# Altium footprint library PCB - CONNECTORS STACK - Samtec - 2x52-pin.PcbLib: 4 footprints
Each footprint in its own frame and in the unit in brackets; x right, y up, seen from the top. Pads: shape width x height; smd on the part's side, far side on the other; paste and mask are expansions set on the pad; w line width, h text height; cw(c..) or ccw(c..) is an arc to the next point about the centre after c.
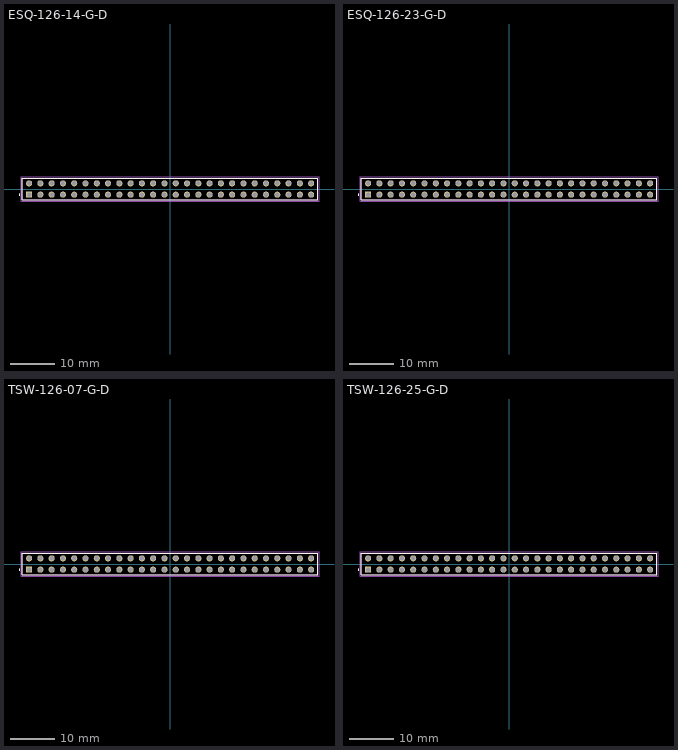
[diagram p0: the footprints below, top view; thin cyan lines are the x and y axes]

## ESQ-126-14-G-D [mm]
pads (52):
  rect 1.37x1.37 hole 1.02: 01(-31.75,-1.27)
  round 1.37 hole 1.02: 02(-31.75,1.27) 03(-29.21,-1.27) 04(-29.21,1.27) 05(-26.67,-1.27) 06(-26.67,1.27) 07(-24.13,-1.27) 08(-24.13,1.27) 09(-21.59,-1.27) 10(-21.59,1.27) 11(-19.05,-1.27) 12(-19.05,1.27) 13(-16.51,-1.27) 14(-16.51,1.27) 15(-13.97,-1.27) 16(-13.97,1.27) 17(-11.43,-1.27) 18(-11.43,1.27) 19(-8.89,-1.27) 20(-8.89,1.27) 21(-6.35,-1.27) 22(-6.35,1.27) 23(-3.81,-1.27) 24(-3.81,1.27) 25(-1.27,-1.27) 26(-1.27,1.27) 27(1.27,-1.27) 28(1.27,1.27) 29(3.81,-1.27) 30(3.81,1.27) 31(6.35,-1.27) 32(6.35,1.27) 33(8.89,-1.27) 34(8.89,1.27) 35(11.43,-1.27) 36(11.43,1.27) 37(13.97,-1.27) 38(13.97,1.27) 39(16.51,-1.27) 40(16.51,1.27) 41(19.05,-1.27) 42(19.05,1.27) 43(21.59,-1.27) 44(21.59,1.27) 45(24.13,-1.27) 46(24.13,1.27) 47(26.67,-1.27) 48(26.67,1.27) 49(29.21,-1.27) 50(29.21,1.27) 51(31.75,-1.27) 52(31.75,1.27)
Top Overlay:
  circle w0.2: c-33.925,-1.27 r0.1
  lines w0.2: -33.275,-2.475 -33.275,2.475 33.275,2.475 33.275,-2.475 -33.275,-2.475
Mechanical 13:
  circle w0.2: c-33.925,-1.27 r0.1
  lines w0.1: -33.275,-2.475 -33.275,2.475 ; -33.275,-2.475 33.275,-2.475 ; -33.275,-2.475 -33.275,2.475 ; -33.275,2.475 33.275,2.475 ; -33.275,2.475 33.275,2.475 ; 33.275,-2.475 33.275,2.475 ; 33.275,-2.475 33.275,2.475
Mechanical 15:
  lines w0.05: -33.525,-2.725 -33.525,2.725 33.525,2.725 33.525,-2.725 -33.525,-2.725
3D body "ESQ-126-14-G-D.stp": height 11.1, standoff -12.14, extent -33.147,-2.54 33.401,2.54

## ESQ-126-23-G-D [mm]
pads (52):
  rect 1.37x1.37 hole 1.02: 01(-31.75,-1.27)
  round 1.37 hole 1.02: 02(-31.75,1.27) 03(-29.21,-1.27) 04(-29.21,1.27) 05(-26.67,-1.27) 06(-26.67,1.27) 07(-24.13,-1.27) 08(-24.13,1.27) 09(-21.59,-1.27) 10(-21.59,1.27) 11(-19.05,-1.27) 12(-19.05,1.27) 13(-16.51,-1.27) 14(-16.51,1.27) 15(-13.97,-1.27) 16(-13.97,1.27) 17(-11.43,-1.27) 18(-11.43,1.27) 19(-8.89,-1.27) 20(-8.89,1.27) 21(-6.35,-1.27) 22(-6.35,1.27) 23(-3.81,-1.27) 24(-3.81,1.27) 25(-1.27,-1.27) 26(-1.27,1.27) 27(1.27,-1.27) 28(1.27,1.27) 29(3.81,-1.27) 30(3.81,1.27) 31(6.35,-1.27) 32(6.35,1.27) 33(8.89,-1.27) 34(8.89,1.27) 35(11.43,-1.27) 36(11.43,1.27) 37(13.97,-1.27) 38(13.97,1.27) 39(16.51,-1.27) 40(16.51,1.27) 41(19.05,-1.27) 42(19.05,1.27) 43(21.59,-1.27) 44(21.59,1.27) 45(24.13,-1.27) 46(24.13,1.27) 47(26.67,-1.27) 48(26.67,1.27) 49(29.21,-1.27) 50(29.21,1.27) 51(31.75,-1.27) 52(31.75,1.27)
Top Overlay:
  circle w0.2: c-33.925,-1.27 r0.1
  lines w0.2: -33.275,-2.475 33.275,-2.475 33.275,2.475 -33.275,2.475 -33.275,-2.475
Mechanical 13:
  circle w0.2: c-33.925,-1.27 r0.1
  lines w0.1: -33.275,-2.475 -33.275,2.475 ; -33.275,-2.475 33.275,-2.475 ; -33.275,-2.475 -33.275,2.475 ; -33.275,2.475 33.275,2.475 ; -33.275,2.475 33.275,2.475 ; 33.275,-2.475 33.275,2.475 ; 33.275,-2.475 33.275,2.475
Mechanical 15:
  lines w0.05: -33.525,-2.725 33.525,-2.725 33.525,2.725 -33.525,2.725 -33.525,-2.725
3D body "ESQ-126-23-G-D.stp": height 13.59, standoff -4.83, extent -33.274,-2.54 33.274,2.54

## TSW-126-07-G-D [mm]
pads (52):
  rect 1.37x1.37 hole 1.02: 01(-31.75,-1.27)
  round 1.37 hole 1.02: 02(-31.75,1.27) 03(-29.21,-1.27) 04(-29.21,1.27) 05(-26.67,-1.27) 06(-26.67,1.27) 07(-24.13,-1.27) 08(-24.13,1.27) 09(-21.59,-1.27) 10(-21.59,1.27) 11(-19.05,-1.27) 12(-19.05,1.27) 13(-16.51,-1.27) 14(-16.51,1.27) 15(-13.97,-1.27) 16(-13.97,1.27) 17(-11.43,-1.27) 18(-11.43,1.27) 19(-8.89,-1.27) 20(-8.89,1.27) 21(-6.35,-1.27) 22(-6.35,1.27) 23(-3.81,-1.27) 24(-3.81,1.27) 25(-1.27,-1.27) 26(-1.27,1.27) 27(1.27,-1.27) 28(1.27,1.27) 29(3.81,-1.27) 30(3.81,1.27) 31(6.35,-1.27) 32(6.35,1.27) 33(8.89,-1.27) 34(8.89,1.27) 35(11.43,-1.27) 36(11.43,1.27) 37(13.97,-1.27) 38(13.97,1.27) 39(16.51,-1.27) 40(16.51,1.27) 41(19.05,-1.27) 42(19.05,1.27) 43(21.59,-1.27) 44(21.59,1.27) 45(24.13,-1.27) 46(24.13,1.27) 47(26.67,-1.27) 48(26.67,1.27) 49(29.21,-1.27) 50(29.21,1.27) 51(31.75,-1.27) 52(31.75,1.27)
Top Overlay:
  circle w0.2: c-33.925,-1.27 r0.1
  lines w0.2: -33.275,-2.475 -33.275,2.475 33.275,2.475 33.275,-2.475 -33.275,-2.475
Mechanical 13:
  circle w0.2: c-33.925,-1.27 r0.1
  lines w0.1: -33.275,-2.475 -33.275,2.475 ; -33.275,-2.475 33.275,-2.475 ; -33.275,-2.475 -33.275,2.475 ; -33.275,2.475 33.275,2.475 ; -33.275,2.475 33.275,2.475 ; 33.275,-2.475 33.275,2.475 ; 33.275,-2.475 33.275,2.475
Mechanical 15:
  lines w0.05: -33.525,-2.725 -33.525,2.725 33.525,2.725 33.525,-2.725 -33.525,-2.725
3D body "TSW-126-07-G-D.stp": height 8.38, standoff -2.54, extent -33.02,-2.54 33.02,2.54

## TSW-126-25-G-D [mm]
pads (52):
  rect 1.37x1.37 hole 1.02: 01(-31.75,-1.27)
  round 1.37 hole 1.02: 02(-31.75,1.27) 03(-29.21,-1.27) 04(-29.21,1.27) 05(-26.67,-1.27) 06(-26.67,1.27) 07(-24.13,-1.27) 08(-24.13,1.27) 09(-21.59,-1.27) 10(-21.59,1.27) 11(-19.05,-1.27) 12(-19.05,1.27) 13(-16.51,-1.27) 14(-16.51,1.27) 15(-13.97,-1.27) 16(-13.97,1.27) 17(-11.43,-1.27) 18(-11.43,1.27) 19(-8.89,-1.27) 20(-8.89,1.27) 21(-6.35,-1.27) 22(-6.35,1.27) 23(-3.81,-1.27) 24(-3.81,1.27) 25(-1.27,-1.27) 26(-1.27,1.27) 27(1.27,-1.27) 28(1.27,1.27) 29(3.81,-1.27) 30(3.81,1.27) 31(6.35,-1.27) 32(6.35,1.27) 33(8.89,-1.27) 34(8.89,1.27) 35(11.43,-1.27) 36(11.43,1.27) 37(13.97,-1.27) 38(13.97,1.27) 39(16.51,-1.27) 40(16.51,1.27) 41(19.05,-1.27) 42(19.05,1.27) 43(21.59,-1.27) 44(21.59,1.27) 45(24.13,-1.27) 46(24.13,1.27) 47(26.67,-1.27) 48(26.67,1.27) 49(29.21,-1.27) 50(29.21,1.27) 51(31.75,-1.27) 52(31.75,1.27)
Top Overlay:
  circle w0.2: c-33.925,-1.27 r0.1
  lines w0.2: -33.275,-2.475 -33.275,2.475 33.275,2.475 33.275,-2.475 -33.275,-2.475
Mechanical 13:
  circle w0.2: c-33.925,-1.27 r0.1
  lines w0.1: -33.275,-2.475 -33.275,2.475 ; -33.275,-2.475 33.275,-2.475 ; -33.275,-2.475 -33.275,2.475 ; -33.275,2.475 33.275,2.475 ; -33.275,2.475 33.275,2.475 ; 33.275,-2.475 33.275,2.475 ; 33.275,-2.475 33.275,2.475
Mechanical 15:
  lines w0.05: -33.525,-2.725 -33.525,2.725 33.525,2.725 33.525,-2.725 -33.525,-2.725
3D body "TSW-126-25-G-D.stp": height 10.92, standoff -5.08, extent -33.02,-2.54 33.02,2.54